# EAGLE library part FT232RL (library FT232RL)
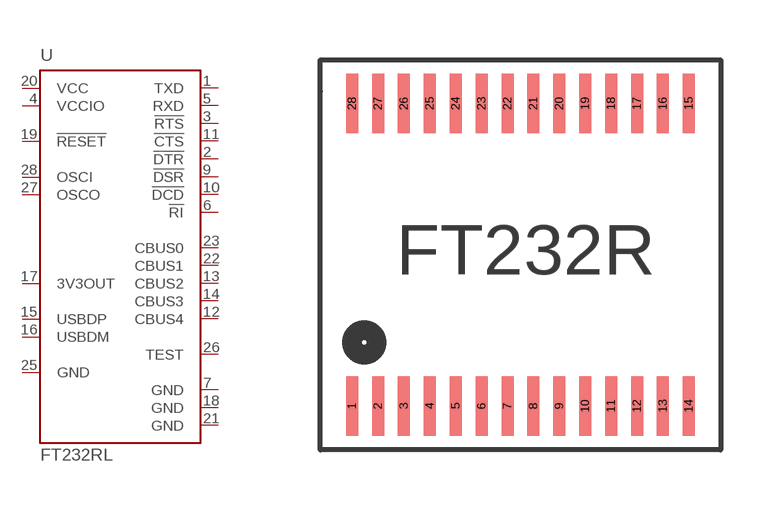
[diagram p0: symbol with the pads of SSOP-28; footprint SSOP-28]

Designator prefix -

## FT232RL  [SSOP-28]
1  TXD  out
2  !DTR  out
3  !RTS  out
4  VCCIO  pwr
5  RXD  in
6  !RI  in
7  GND  pwr
9  !DSR  in
10  !DCD  in
11  !CTS  in
12  CBUS4
13  CBUS2
14  CBUS3
15  USBDP
16  USBDM
17  3V3OUT  out
18  GND  pwr
19  !RESET  in
20  VCC  pwr
21  GND  pwr
22  CBUS1
23  CBUS0
25  GND  pwr
26  TEST  in
27  OSCO  out
28  OSCI  in

## Footprint SSOP-28 (pad centres in mm)
smd 0.3 x 1.5: 1 -3.9,-3.8; 2 -3.25,-3.8; 3 -2.6,-3.8; 4 -1.95,-3.8; 5 -1.3,-3.8; 6 -0.65,-3.8; 7 0,-3.8; 8 0.65,-3.8; 9 1.3,-3.8; 10 1.95,-3.8; 11 2.6,-3.8; 12 3.25,-3.8; 13 3.9,-3.8; 14 4.55,-3.8; 15 4.55,3.8; 16 3.9,3.8; 17 3.25,3.8; 18 2.6,3.8; 19 1.95,3.8; 20 1.3,3.8; 21 0.65,3.8; 22 0,3.8; 23 -0.65,3.8; 24 -1.3,3.8; 25 -1.95,3.8; 26 -2.6,3.8; 27 -3.25,3.8; 28 -3.9,3.8